# Altium schematic symbol library Schlib4.SchLib: 5 symbols
Pins are listed as number, name and electrical type; pins without a type are passive.

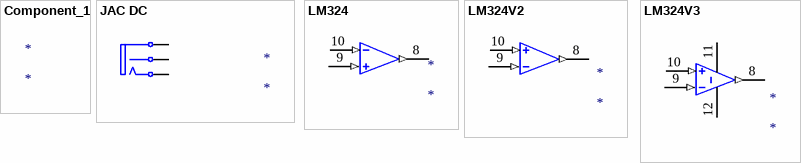
[diagram p0: symbols Component_1 to LM324V3]

## Component_1
designator *

## JAC DC
designator *
pins: 1 (power), 2 (power), 3

## LM324
designator *
pins: 8 (out), 9 (in), 10 (in)

## LM324V2
designator *
pins: 8 (out), 9 (in), 10 (in)

## LM324V3
designator *
pins: 8 (out), 9 (in), 10 (in), 11, 12